# Altium footprint library WS-DISV.PcbLib: 32 footprints (part 1 of 2)
Each footprint in its own frame and in the unit in brackets; x right, y up, seen from the top. Pads: shape width x height; smd on the part's side, far side on the other; paste and mask are expansions set on the pad; w line width, h text height; cw(c..) or ccw(c..) is an arc to the next point about the centre after c.
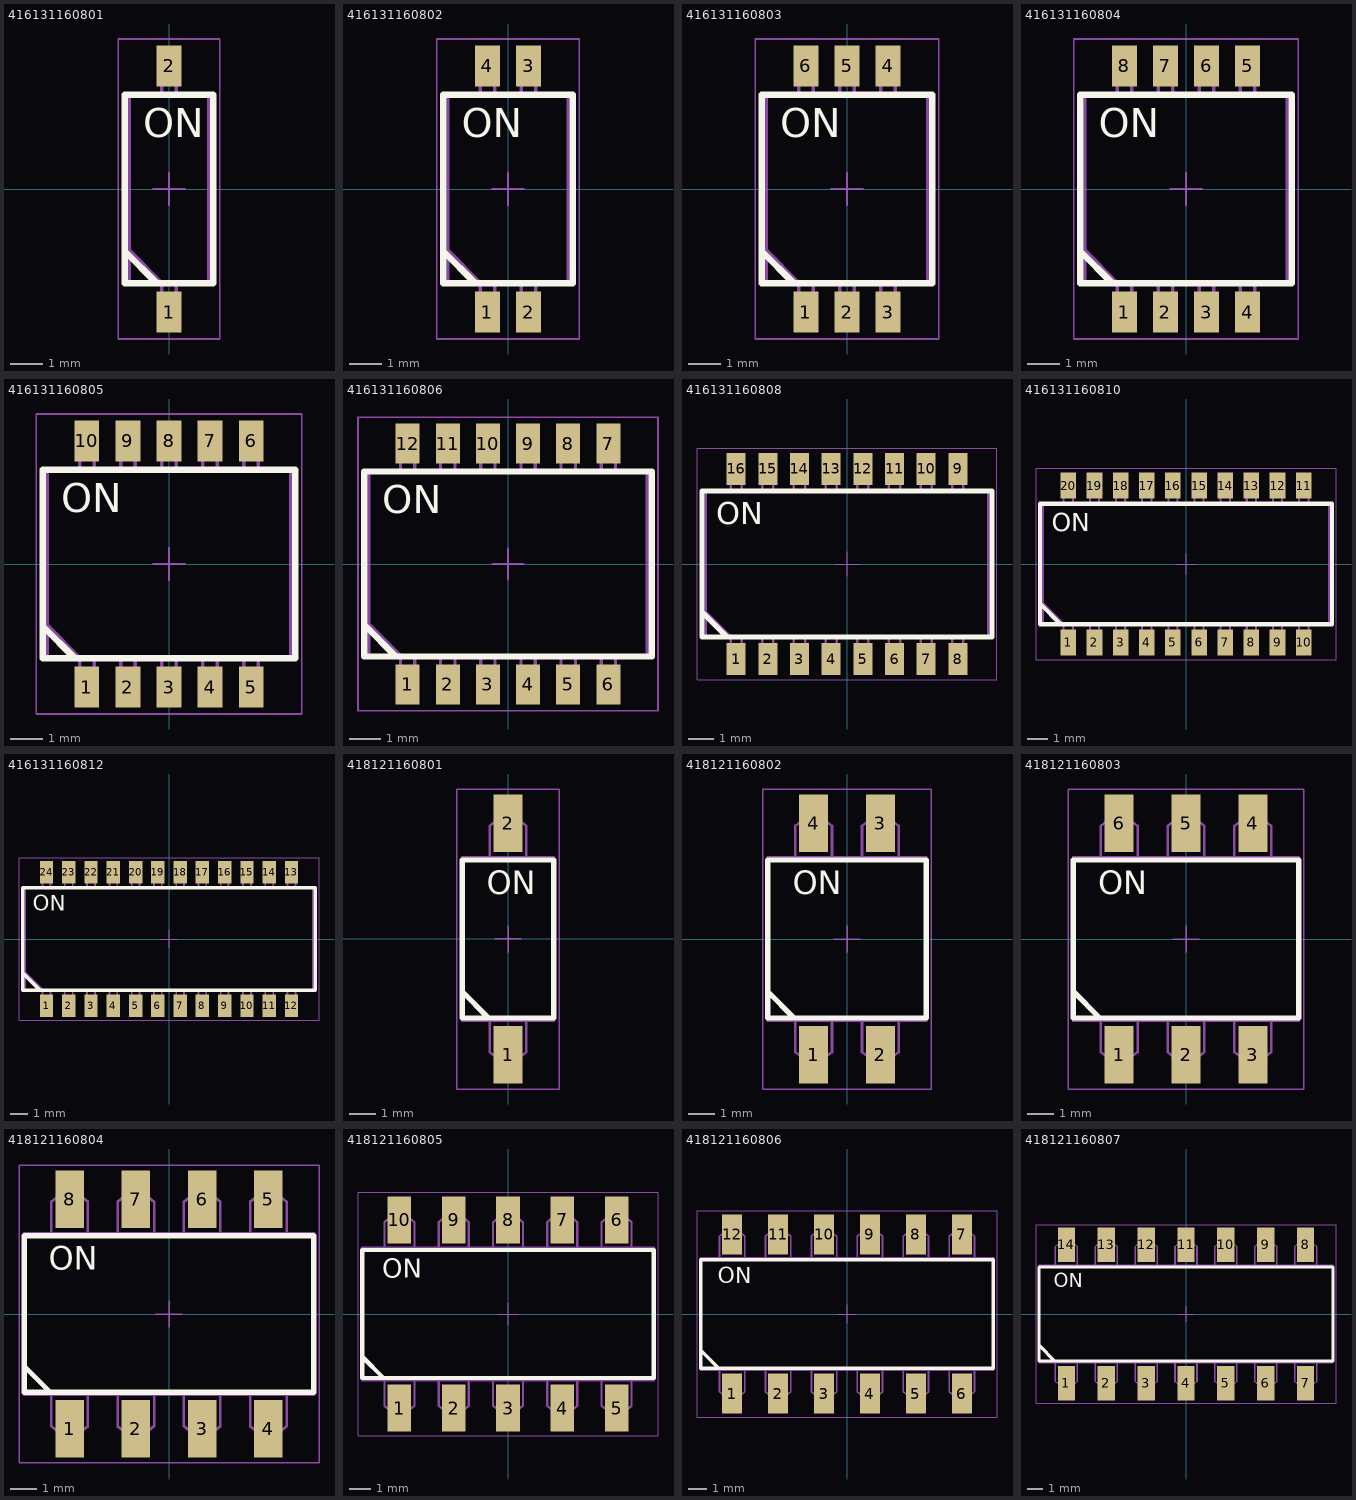
[diagram p0: the footprints below, top view; thin cyan lines are the x and y axes]

## 416131160801 [mm] "SMD Dip Switch, Small Compact, Raised Actuator, 1pin"
height 2.65
pads (2):
  rect 0.76x1.27 smd: 1(0,-3.81) 2(0,3.81)
Top Overlay:
  lines w0.2: -1.37,-1.925 -0.37,-2.925 ; -1.37,-2.925 -1.37,2.925 1.37,2.925 1.37,-2.925 -1.37,-2.925
  text "ON" at -0.8,1.6 h0.89
Top Component Outline:
  lines w0.1: -1.22,-1.9 -0.22,-2.9 ; -0.225,-2.9 -0.225,-4.32 0.225,-4.32 0.225,-2.9 ; -0.225,2.9 -0.225,4.32 0.225,4.32 0.225,2.9 ; -1.22,-2.9 1.22,-2.9 1.22,2.9 -1.22,2.9 -1.22,-2.9
  text "ON" at -0.8,1.6 h0.89
Top Courtyard:
  lines w0.05: -1.57,-4.645 -1.57,4.645 1.57,4.645 1.57,-4.645 -1.57,-4.645
Top Component Center:
  lines w0.05: -0.5,0 0.5,0 ; 0,-0.5 0,0.5
Top Designator (Mech19):
  text ".Designator" at -4.998,-0.333 h1
3D body "416131160801.stp": height 2.65, standoff 0, extent -1.22,-4.32 1.22,4.32

## 416131160802 [mm] "SMD Dip Switch, Small Compact, Raised Actuator, 2pin"
height 2.65
pads (4):
  rect 0.76x1.27 smd: 1(-0.635,-3.81) 2(0.635,-3.81) 3(0.635,3.81) 4(-0.635,3.81)
Top Overlay:
  lines w0.2: -2.005,-1.925 -1.005,-2.925 ; -2.005,-2.925 -2.005,2.925 2.005,2.925 2.005,-2.925 -2.005,-2.925
  text "ON" at -1.435,1.6 h0.89
Top Component Outline:
  lines w0.1: -1.855,-1.9 -0.855,-2.9 ; -0.86,-2.9 -0.86,-4.32 -0.41,-4.32 -0.41,-2.9 ; -0.86,2.9 -0.86,4.32 -0.41,4.32 -0.41,2.9 ; 0.41,-2.9 0.41,-4.32 0.86,-4.32 0.86,-2.9 ; 0.41,2.9 0.41,4.32 0.86,4.32 0.86,2.9 ; -1.855,-2.9 1.855,-2.9 1.855,2.9 -1.855,2.9 -1.855,-2.9
  text "ON" at -1.435,1.6 h0.89
Top Courtyard:
  lines w0.05: -2.205,-4.645 -2.205,4.645 2.205,4.645 2.205,-4.645 -2.205,-4.645
Top Component Center:
  lines w0.05: -0.5,0 0.5,0 ; 0,-0.5 0,0.5
Top Designator (Mech19):
  text ".Designator" at -7.498,-0.5 h1.5
3D body "416131160802.stp": height 2.7, standoff 0, extent -1.855,-4.22 1.855,4.22

## 416131160803 [mm] "SMD Dip Switch, Small Compact, Raised Actuator, 3pin"
height 2.65
pads (6):
  rect 0.76x1.27 smd: 1(-1.27,-3.81) 2(0,-3.81) 3(1.27,-3.81) 4(1.27,3.81) 5(0,3.81) 6(-1.27,3.81)
Top Overlay:
  lines w0.2: -2.64,-1.925 -1.64,-2.925 ; -2.64,-2.925 -2.64,2.925 2.64,2.925 2.64,-2.925 -2.64,-2.925
  text "ON" at -2.07,1.6 h0.89
Top Component Outline:
  lines w0.1: -2.49,-1.9 -1.49,-2.9 ; -1.495,-2.9 -1.495,-4.32 -1.045,-4.32 -1.045,-2.9 ; -1.495,2.9 -1.495,4.32 -1.045,4.32 -1.045,2.9 ; -0.225,-2.9 -0.225,-4.32 0.225,-4.32 0.225,-2.9 ; -0.225,2.9 -0.225,4.32 0.225,4.32 0.225,2.9 ; 1.045,-2.9 1.045,-4.32 1.495,-4.32 1.495,-2.9 ; 1.045,2.9 1.045,4.32 1.495,4.32 1.495,2.9 ; -2.49,-2.9 2.49,-2.9 2.49,2.9 -2.49,2.9 -2.49,-2.9
  text "ON" at -2.07,1.6 h0.89
Top Courtyard:
  lines w0.05: -2.84,-4.645 -2.84,4.645 2.84,4.645 2.84,-4.645 -2.84,-4.645
Top Component Center:
  lines w0.05: -0.5,0 0.5,0 ; 0,-0.5 0,0.5
Top Designator (Mech19):
  text ".Designator" at -7.498,-0.5 h1.5
3D body "416131160803.stp": height 2.65, standoff 0, extent -2.49,-4.22 2.49,4.22

## 416131160804 [mm] "SMD Dip Switch, Small Compact, Raised Actuator, 4pin"
height 2.65
pads (8):
  rect 0.76x1.27 smd: 1(-1.905,-3.81) 2(-0.635,-3.81) 3(0.635,-3.81) 4(1.905,-3.81) 5(1.905,3.81) 6(0.635,3.81) 7(-0.635,3.81) 8(-1.905,3.81)
Top Overlay:
  lines w0.2: -3.275,-1.925 -2.275,-2.925 ; -3.275,-2.925 -3.275,2.925 3.275,2.925 3.275,-2.925 -3.275,-2.925
  text "ON" at -2.705,1.6 h0.89
Top Component Outline:
  lines w0.1: -3.125,-1.9 -2.125,-2.9 ; -2.13,-2.9 -2.13,-4.32 -1.68,-4.32 -1.68,-2.9 ; -2.13,2.9 -2.13,4.32 -1.68,4.32 -1.68,2.9 ; -0.86,-2.9 -0.86,-4.32 -0.41,-4.32 -0.41,-2.9 ; -0.86,2.9 -0.86,4.32 -0.41,4.32 -0.41,2.9 ; 0.41,-2.9 0.41,-4.32 0.86,-4.32 0.86,-2.9 ; 0.41,2.9 0.41,4.32 0.86,4.32 0.86,2.9 ; 1.68,-2.9 1.68,-4.32 2.13,-4.32 2.13,-2.9 ; 1.68,2.9 1.68,4.32 2.13,4.32 2.13,2.9 ; -3.125,-2.9 3.125,-2.9 3.125,2.9 -3.125,2.9 -3.125,-2.9
  text "ON" at -2.705,1.6 h0.89
Top Courtyard:
  lines w0.05: -3.475,-4.645 -3.475,4.645 3.475,4.645 3.475,-4.645 -3.475,-4.645
Top Component Center:
  lines w0.05: -0.5,0 0.5,0 ; 0,-0.5 0,0.5
Top Designator (Mech19):
  text ".Designator" at -7.498,-0.5 h1.5
3D body "416131160804.stp": height 2.7, standoff 0, extent -3.125,-4.22 3.125,4.22

## 416131160805 [mm] "SMD Dip Switch, Small Compact, Raised Actuator, 5pin"
height 2.65
pads (10):
  rect 0.76x1.27 smd: 1(-2.54,-3.81) 2(-1.27,-3.81) 3(0,-3.81) 4(1.27,-3.81) 5(2.54,-3.81) 6(2.54,3.81) 7(1.27,3.81) 8(0,3.81) 9(-1.27,3.81) 10(-2.54,3.81)
Top Overlay:
  lines w0.2: -3.91,-1.925 -2.91,-2.925 ; -3.91,-2.925 -3.91,2.925 3.91,2.925 3.91,-2.925 -3.91,-2.925
  text "ON" at -3.34,1.6 h0.89
Top Component Outline:
  lines w0.1: -3.76,-1.9 -2.76,-2.9 ; -2.765,-2.9 -2.765,-4.32 -2.315,-4.32 -2.315,-2.9 ; -2.765,2.9 -2.765,4.32 -2.315,4.32 -2.315,2.9 ; -1.495,-2.9 -1.495,-4.32 -1.045,-4.32 -1.045,-2.9 ; -1.495,2.9 -1.495,4.32 -1.045,4.32 -1.045,2.9 ; -0.225,-2.9 -0.225,-4.32 0.225,-4.32 0.225,-2.9 ; -0.225,2.9 -0.225,4.32 0.225,4.32 0.225,2.9 ; 1.045,-2.9 1.045,-4.32 1.495,-4.32 1.495,-2.9 ; 1.045,2.9 1.045,4.32 1.495,4.32 1.495,2.9 ; 2.315,-2.9 2.315,-4.32 2.765,-4.32 2.765,-2.9 ; 2.315,2.9 2.315,4.32 2.765,4.32 2.765,2.9 ; -3.76,-2.9 3.76,-2.9 3.76,2.9 -3.76,2.9 -3.76,-2.9
  text "ON" at -3.34,1.6 h0.89
Top Courtyard:
  lines w0.05: -4.11,-4.645 -4.11,4.645 4.11,4.645 4.11,-4.645 -4.11,-4.645
Top Component Center:
  lines w0.05: -0.5,0 0.5,0 ; 0,-0.5 0,0.5
Top Designator (Mech19):
  text ".Designator" at -7.498,-0.5 h1.5
3D body "416131160805.stp": height 2.65, standoff 0, extent -3.76,-4.22 3.76,4.22

## 416131160806 [mm] "SMD Dip Switch, Small Compact, Raised Actuator, 6pin"
height 2.65
pads (12):
  rect 0.76x1.27 smd: 1(-3.175,-3.81) 2(-1.905,-3.81) 3(-0.635,-3.81) 4(0.635,-3.81) 5(1.905,-3.81) 6(3.175,-3.81) 7(3.175,3.81) 8(1.905,3.81) 9(0.635,3.81) 10(-0.635,3.81) 11(-1.905,3.81) 12(-3.175,3.81)
Top Overlay:
  lines w0.2: -4.545,-1.925 -3.545,-2.925 ; -4.545,-2.925 -4.545,2.925 4.545,2.925 4.545,-2.925 -4.545,-2.925
  text "ON" at -3.975,1.6 h0.89
Top Component Outline:
  lines w0.1: -4.395,-1.9 -3.395,-2.9 ; -3.4,-2.9 -3.4,-4.32 -2.95,-4.32 -2.95,-2.9 ; -3.4,2.9 -3.4,4.32 -2.95,4.32 -2.95,2.9 ; -2.13,-2.9 -2.13,-4.32 -1.68,-4.32 -1.68,-2.9 ; -2.13,2.9 -2.13,4.32 -1.68,4.32 -1.68,2.9 ; -0.86,-2.9 -0.86,-4.32 -0.41,-4.32 -0.41,-2.9 ; -0.86,2.9 -0.86,4.32 -0.41,4.32 -0.41,2.9 ; 0.41,-2.9 0.41,-4.32 0.86,-4.32 0.86,-2.9 ; 0.41,2.9 0.41,4.32 0.86,4.32 0.86,2.9 ; 1.68,-2.9 1.68,-4.32 2.13,-4.32 2.13,-2.9 ; 1.68,2.9 1.68,4.32 2.13,4.32 2.13,2.9 ; 2.95,-2.9 2.95,-4.32 3.4,-4.32 3.4,-2.9 ; 2.95,2.9 2.95,4.32 3.4,4.32 3.4,2.9 ; -4.395,-2.9 4.395,-2.9 4.395,2.9 -4.395,2.9 -4.395,-2.9
  text "ON" at -3.975,1.6 h0.89
Top Courtyard:
  lines w0.05: -4.745,-4.645 -4.745,4.645 4.745,4.645 4.745,-4.645 -4.745,-4.645
Top Component Center:
  lines w0.05: -0.5,0 0.5,0 ; 0,-0.5 0,0.5
Top Designator (Mech19):
  text ".Designator" at -7.498,-0.5 h1.5
3D body "416131160806.stp": height 2.7, standoff 0, extent -4.395,-4.22 4.395,4.22

## 416131160808 [mm] "SMD Dip Switch, Small Compact, Raised Actuator, 8pin"
height 2.65
pads (16):
  rect 0.76x1.27 smd: 1(-4.445,-3.81) 2(-3.175,-3.81) 3(-1.905,-3.81) 4(-0.635,-3.81) 5(0.635,-3.81) 6(1.905,-3.81) 7(3.175,-3.81) 8(4.445,-3.81) 9(4.445,3.81) 10(3.175,3.81) 11(1.905,3.81) 12(0.635,3.81) 13(-0.635,3.81) 14(-1.905,3.81) 15(-3.175,3.81) 16(-4.445,3.81)
Top Overlay:
  lines w0.2: -5.815,-1.925 -4.815,-2.925 ; -5.815,-2.925 5.815,-2.925 5.815,2.925 -5.815,2.925 -5.815,-2.925
  text "ON" at -5.245,1.6 h0.89
Top Component Outline:
  lines w0.1: -5.665,-1.9 -4.665,-2.9 ; -4.67,-2.9 -4.67,-4.32 -4.22,-4.32 -4.22,-2.9 ; -4.67,2.9 -4.67,4.32 -4.22,4.32 -4.22,2.9 ; -3.4,-2.9 -3.4,-4.32 -2.95,-4.32 -2.95,-2.9 ; -3.4,2.9 -3.4,4.32 -2.95,4.32 -2.95,2.9 ; -2.13,-2.9 -2.13,-4.32 -1.68,-4.32 -1.68,-2.9 ; -2.13,2.9 -2.13,4.32 -1.68,4.32 -1.68,2.9 ; -0.86,-2.9 -0.86,-4.32 -0.41,-4.32 -0.41,-2.9 ; -0.86,2.9 -0.86,4.32 -0.41,4.32 -0.41,2.9 ; 0.41,-2.9 0.41,-4.32 0.86,-4.32 0.86,-2.9 ; 0.41,2.9 0.41,4.32 0.86,4.32 0.86,2.9 ; 1.68,-2.9 1.68,-4.32 2.13,-4.32 2.13,-2.9 ; 1.68,2.9 1.68,4.32 2.13,4.32 2.13,2.9 ; 2.95,-2.9 2.95,-4.32 3.4,-4.32 3.4,-2.9 ; 2.95,2.9 2.95,4.32 3.4,4.32 3.4,2.9 ; 4.22,-2.9 4.22,-4.32 4.67,-4.32 4.67,-2.9 ; 4.22,2.9 4.22,4.32 4.67,4.32 4.67,2.9 ; -5.665,-2.9 -5.665,2.9 5.665,2.9 5.665,-2.9 -5.665,-2.9
  text "ON" at -5.245,1.6 h0.89
Top Courtyard:
  lines w0.05: -6.015,-4.645 6.015,-4.645 6.015,4.645 -6.015,4.645 -6.015,-4.645
Top Component Center:
  lines w0.05: -0.5,0 0.5,0 ; 0,-0.5 0,0.5
Top Designator (Mech19):
  text ".Designator" at -7.498,-0.5 h1.5
3D body "416131160808.stp": height 2.7, standoff 0, extent -5.665,-4.22 5.665,4.22

## 416131160810 [mm] "SMD Dip Switch, Small Compact, Raised Actuator, 10pin"
height 2.65
pads (20):
  rect 0.76x1.27 smd: 1(-5.715,-3.81) 2(-4.445,-3.81) 3(-3.175,-3.81) 4(-1.905,-3.81) 5(-0.635,-3.81) 6(0.635,-3.81) 7(1.905,-3.81) 8(3.175,-3.81) 9(4.445,-3.81) 10(5.715,-3.81) 11(5.715,3.81) 12(4.445,3.81) 13(3.175,3.81) 14(1.905,3.81) 15(0.635,3.81) 16(-0.635,3.81) 17(-1.905,3.81) 18(-3.175,3.81) 19(-4.445,3.81) 20(-5.715,3.81)
Top Overlay:
  lines w0.2: -7.085,-1.925 -6.085,-2.925 ; -7.085,-2.925 7.085,-2.925 7.085,2.925 -7.085,2.925 -7.085,-2.925
  text "ON" at -6.515,1.6 h0.89
Top Component Outline:
  lines w0.1: -6.935,-1.9 -5.935,-2.9 ; -5.94,-2.9 -5.94,-4.32 -5.49,-4.32 -5.49,-2.9 ; -5.94,2.9 -5.94,4.32 -5.49,4.32 -5.49,2.9 ; -4.67,-2.9 -4.67,-4.32 -4.22,-4.32 -4.22,-2.9 ; -4.67,2.9 -4.67,4.32 -4.22,4.32 -4.22,2.9 ; -3.4,-2.9 -3.4,-4.32 -2.95,-4.32 -2.95,-2.9 ; -3.4,2.9 -3.4,4.32 -2.95,4.32 -2.95,2.9 ; -2.13,-2.9 -2.13,-4.32 -1.68,-4.32 -1.68,-2.9 ; -2.13,2.9 -2.13,4.32 -1.68,4.32 -1.68,2.9 ; -0.86,-2.9 -0.86,-4.32 -0.41,-4.32 -0.41,-2.9 ; -0.86,2.9 -0.86,4.32 -0.41,4.32 -0.41,2.9 ; 0.41,-2.9 0.41,-4.32 0.86,-4.32 0.86,-2.9 ; 0.41,2.9 0.41,4.32 0.86,4.32 0.86,2.9 ; 1.68,-2.9 1.68,-4.32 2.13,-4.32 2.13,-2.9 ; 1.68,2.9 1.68,4.32 2.13,4.32 2.13,2.9 ; 2.95,-2.9 2.95,-4.32 3.4,-4.32 3.4,-2.9 ; 2.95,2.9 2.95,4.32 3.4,4.32 3.4,2.9 ; 4.22,-2.9 4.22,-4.32 4.67,-4.32 4.67,-2.9 ; 4.22,2.9 4.22,4.32 4.67,4.32 4.67,2.9 ; 5.49,-2.9 5.49,-4.32 5.94,-4.32 5.94,-2.9 ; 5.49,2.9 5.49,4.32 5.94,4.32 5.94,2.9 ; -6.935,-2.9 -6.935,2.9 6.935,2.9 6.935,-2.9 -6.935,-2.9
  text "ON" at -6.515,1.6 h0.89
Top Courtyard:
  lines w0.05: -7.285,-4.645 7.285,-4.645 7.285,4.645 -7.285,4.645 -7.285,-4.645
Top Component Center:
  lines w0.05: -0.5,0 0.5,0 ; 0,-0.5 0,0.5
Top Designator (Mech19):
  text ".Designator" at -7.498,-0.5 h1.5
3D body "416131160810.stp": height 2.7, standoff 0, extent -6.935,-4.22 6.935,4.22

## 416131160812 [mm] "SMD Dip Switch, Small Compact, Raised Actuator, 12pin"
height 2.65
pads (24):
  rect 0.76x1.27 smd: 1(-6.985,-3.81) 2(-5.715,-3.81) 3(-4.445,-3.81) 4(-3.175,-3.81) 5(-1.905,-3.81) 6(-0.635,-3.81) 7(0.635,-3.81) 8(1.905,-3.81) 9(3.175,-3.81) 10(4.445,-3.81) 11(5.715,-3.81) 12(6.985,-3.81) 13(6.985,3.81) 14(5.715,3.81) 15(4.445,3.81) 16(3.175,3.81) 17(1.905,3.81) 18(0.635,3.81) 19(-0.635,3.81) 20(-1.905,3.81) 21(-3.175,3.81) 22(-4.445,3.81) 23(-5.715,3.81) 24(-6.985,3.81)
Top Overlay:
  lines w0.2: -8.355,-1.925 -7.355,-2.925 ; -8.355,-2.925 8.355,-2.925 8.355,2.925 -8.355,2.925 -8.355,-2.925
  text "ON" at -7.785,1.6 h0.89
Top Component Outline:
  lines w0.1: -8.205,-1.9 -7.205,-2.9 ; -7.21,-2.9 -7.21,-4.32 -6.76,-4.32 -6.76,-2.9 ; -7.21,2.9 -7.21,4.32 -6.76,4.32 -6.76,2.9 ; -5.94,-2.9 -5.94,-4.32 -5.49,-4.32 -5.49,-2.9 ; -5.94,2.9 -5.94,4.32 -5.49,4.32 -5.49,2.9 ; -4.67,-2.9 -4.67,-4.32 -4.22,-4.32 -4.22,-2.9 ; -4.67,2.9 -4.67,4.32 -4.22,4.32 -4.22,2.9 ; -3.4,-2.9 -3.4,-4.32 -2.95,-4.32 -2.95,-2.9 ; -3.4,2.9 -3.4,4.32 -2.95,4.32 -2.95,2.9 ; -2.13,-2.9 -2.13,-4.32 -1.68,-4.32 -1.68,-2.9 ; -2.13,2.9 -2.13,4.32 -1.68,4.32 -1.68,2.9 ; -0.86,-2.9 -0.86,-4.32 -0.41,-4.32 -0.41,-2.9 ; -0.86,2.9 -0.86,4.32 -0.41,4.32 -0.41,2.9 ; 0.41,-2.9 0.41,-4.32 0.86,-4.32 0.86,-2.9 ; 0.41,2.9 0.41,4.32 0.86,4.32 0.86,2.9 ; 1.68,-2.9 1.68,-4.32 2.13,-4.32 2.13,-2.9 ; 1.68,2.9 1.68,4.32 2.13,4.32 2.13,2.9 ; 2.95,-2.9 2.95,-4.32 3.4,-4.32 3.4,-2.9 ; 2.95,2.9 2.95,4.32 3.4,4.32 3.4,2.9 ; 4.22,-2.9 4.22,-4.32 4.67,-4.32 4.67,-2.9 ; 4.22,2.9 4.22,4.32 4.67,4.32 4.67,2.9 ; 5.49,-2.9 5.49,-4.32 5.94,-4.32 5.94,-2.9 ; 5.49,2.9 5.49,4.32 5.94,4.32 5.94,2.9 ; 6.76,-2.9 6.76,-4.32 7.21,-4.32 7.21,-2.9 ; 6.76,2.9 6.76,4.32 7.21,4.32 7.21,2.9 ; -8.205,-2.9 -8.205,2.9 8.205,2.9 8.205,-2.9 -8.205,-2.9
  text "ON" at -7.785,1.6 h0.89
Top Courtyard:
  lines w0.05: -8.555,-4.645 8.555,-4.645 8.555,4.645 -8.555,4.645 -8.555,-4.645
Top Component Center:
  lines w0.05: -0.5,0 0.5,0 ; 0,-0.5 0,0.5
Top Designator (Mech19):
  text ".Designator" at -7.498,-0.5 h1.5
3D body "416131160812.stp": height 2.7, standoff 0, extent -8.205,-4.22 8.205,4.22

## 418121160801 [mm] "2.54 mm small compact SMD flat actuator with top tape, 01p"
height 3.2
pads (2):
  rect 1.1x2.2 smd: 1(0,-4.4) 2(0,4.4)
Top Overlay:
  lines w0.2: -1.74,-2 -0.74,-3 ; -1.74,-3 -1.74,3 1.74,3 1.74,-3 -1.74,-3
  text "ON" at -0.8,1.7 h0.89
Top Component Outline:
  lines w0.1: -1.74,-2.06 -0.7,-3.1 -0.7,-4.3 -0.25,-4.65 -0.25,-5.2 0.25,-5.2 0.25,-4.65 0.7,-4.3 0.7,-3.1 ; -0.7,3.1 -0.7,4.3 -0.25,4.65 -0.25,5.2 0.25,5.2 0.25,4.65 0.7,4.3 0.7,3.1 ; -1.74,-3.1 1.74,-3.1 1.74,3.1 -1.74,3.1 -1.74,-3.1
  text "ON" at -0.8,1.7 h0.89
Top Courtyard:
  lines w0.05: -1.94,-5.7 1.94,-5.7 1.94,5.7 -1.94,5.7 -1.94,-5.7
Top Component Center:
  lines w0.05: -0.5,0 0.5,0 ; 0,-0.5 0,0.5
Top Designator (Mech19):
  text ".Designator" at -7.498,-0.5 h1.5
3D body "418121160801 (rev1).stp": height 3.19, standoff 0, extent -1.74,-5.278 1.74,5.28

## 418121160802 [mm] "2.54 mm small compact SMD flat actuator with top tape, 02p"
height 3.2
pads (4):
  rect 1.1x2.2 smd: 1(-1.27,-4.4) 2(1.27,-4.4) 3(1.27,4.4) 4(-1.27,4.4)
Top Overlay:
  lines w0.2: -3.01,-2 -2.01,-3 ; -3.01,-3 -3.01,3 3.01,3 3.01,-3 -3.01,-3
  text "ON" at -2.07,1.7 h0.89
Top Component Outline:
  lines w0.1: -3.01,-2.06 -1.97,-3.1 -1.97,-4.3 -1.52,-4.65 -1.52,-5.2 -1.02,-5.2 -1.02,-4.65 -0.57,-4.3 -0.57,-3.1 ; -1.97,3.1 -1.97,4.3 -1.52,4.65 -1.52,5.2 -1.02,5.2 -1.02,4.65 -0.57,4.3 -0.57,3.1 ; 0.57,-3.1 0.57,-4.3 1.02,-4.65 1.02,-5.2 1.52,-5.2 1.52,-4.65 1.97,-4.3 1.97,-3.1 ; 0.57,3.1 0.57,4.3 1.02,4.65 1.02,5.2 1.52,5.2 1.52,4.65 1.97,4.3 1.97,3.1 ; -3.01,-3.1 3.01,-3.1 3.01,3.1 -3.01,3.1 -3.01,-3.1
  text "ON" at -2.07,1.7 h0.89
Top Courtyard:
  lines w0.05: -3.21,-5.7 3.21,-5.7 3.21,5.7 -3.21,5.7 -3.21,-5.7
Top Component Center:
  lines w0.05: -0.5,0 0.5,0 ; 0,-0.5 0,0.5
Top Designator (Mech19):
  text ".Designator" at -7.498,-0.5 h1.5
3D body "418121160802.stp": height 3.74, standoff 0, extent -3.01,-4.894 3.01,4.894

## 418121160803 [mm] "2.54 mm small compact SMD flat actuator with top tape, 03p"
height 3.2
pads (6):
  rect 1.1x2.2 smd: 1(-2.54,-4.4) 2(0,-4.4) 3(2.54,-4.4) 4(2.54,4.4) 5(0,4.4) 6(-2.54,4.4)
Top Overlay:
  lines w0.2: -4.28,-2 -3.28,-3 ; -4.28,-3 -4.28,3 4.28,3 4.28,-3 -4.28,-3
  text "ON" at -3.34,1.7 h0.89
Top Component Outline:
  lines w0.1: -4.28,-2.06 -3.24,-3.1 -3.24,-4.3 -2.79,-4.65 -2.79,-5.2 -2.29,-5.2 -2.29,-4.65 -1.84,-4.3 -1.84,-3.1 ; -3.24,3.1 -3.24,4.3 -2.79,4.65 -2.79,5.2 -2.29,5.2 -2.29,4.65 -1.84,4.3 -1.84,3.1 ; -0.7,-3.1 -0.7,-4.3 -0.25,-4.65 -0.25,-5.2 0.25,-5.2 0.25,-4.65 0.7,-4.3 0.7,-3.1 ; -0.7,3.1 -0.7,4.3 -0.25,4.65 -0.25,5.2 0.25,5.2 0.25,4.65 0.7,4.3 0.7,3.1 ; 1.84,-3.1 1.84,-4.3 2.29,-4.65 2.29,-5.2 2.79,-5.2 2.79,-4.65 3.24,-4.3 3.24,-3.1 ; 1.84,3.1 1.84,4.3 2.29,4.65 2.29,5.2 2.79,5.2 2.79,4.65 3.24,4.3 3.24,3.1 ; -4.28,-3.1 4.28,-3.1 4.28,3.1 -4.28,3.1 -4.28,-3.1
  text "ON" at -3.34,1.7 h0.89
Top Courtyard:
  lines w0.05: -4.48,-5.7 4.48,-5.7 4.48,5.7 -4.48,5.7 -4.48,-5.7
Top Component Center:
  lines w0.05: -0.5,0 0.5,0 ; 0,-0.5 0,0.5
Top Designator (Mech19):
  text ".Designator" at -7.498,-0.5 h1.5
3D body "418121160803.stp": height 3.74, standoff 0, extent -4.28,-4.894 4.28,4.894

## 418121160804 [mm] "2.54 mm small compact SMD flat actuator with top tape, 04p"
height 3.2
pads (8):
  rect 1.1x2.2 smd: 1(-3.81,-4.4) 2(-1.27,-4.4) 3(1.27,-4.4) 4(3.81,-4.4) 5(3.81,4.4) 6(1.27,4.4) 7(-1.27,4.4) 8(-3.81,4.4)
Top Overlay:
  lines w0.2: -5.55,-2 -4.55,-3 ; -5.55,-3 5.55,-3 5.55,3 -5.55,3 -5.55,-3
  text "ON" at -4.61,1.7 h0.89
Top Component Outline:
  lines w0.1: -5.55,-2.06 -4.51,-3.1 -4.51,-4.3 -4.06,-4.65 -4.06,-5.2 -3.56,-5.2 -3.56,-4.65 -3.11,-4.3 -3.11,-3.1 ; -4.51,3.1 -4.51,4.3 -4.06,4.65 -4.06,5.2 -3.56,5.2 -3.56,4.65 -3.11,4.3 -3.11,3.1 ; -1.97,-3.1 -1.97,-4.3 -1.52,-4.65 -1.52,-5.2 -1.02,-5.2 -1.02,-4.65 -0.57,-4.3 -0.57,-3.1 ; -1.97,3.1 -1.97,4.3 -1.52,4.65 -1.52,5.2 -1.02,5.2 -1.02,4.65 -0.57,4.3 -0.57,3.1 ; 0.57,-3.1 0.57,-4.3 1.02,-4.65 1.02,-5.2 1.52,-5.2 1.52,-4.65 1.97,-4.3 1.97,-3.1 ; 0.57,3.1 0.57,4.3 1.02,4.65 1.02,5.2 1.52,5.2 1.52,4.65 1.97,4.3 1.97,3.1 ; 3.11,-3.1 3.11,-4.3 3.56,-4.65 3.56,-5.2 4.06,-5.2 4.06,-4.65 4.51,-4.3 4.51,-3.1 ; 3.11,3.1 3.11,4.3 3.56,4.65 3.56,5.2 4.06,5.2 4.06,4.65 4.51,4.3 4.51,3.1 ; -5.55,-3.1 -5.55,3.1 5.55,3.1 5.55,-3.1 -5.55,-3.1
  text "ON" at -4.61,1.7 h0.89
Top Courtyard:
  lines w0.05: -5.75,-5.7 -5.75,5.7 5.75,5.7 5.75,-5.7 -5.75,-5.7
Top Component Center:
  lines w0.05: -0.5,0 0.5,0 ; 0,-0.5 0,0.5
Top Designator (Mech19):
  text ".Designator" at -7.498,-0.5 h1.5
3D body "418121160804.stp": height 3.74, standoff 0, extent -5.55,-4.894 5.55,4.894

## 418121160805 [mm] "2.54 mm small compact SMD flat actuator with top tape, 05p"
height 3.2
pads (10):
  rect 1.1x2.2 smd: 1(-5.08,-4.4) 2(-2.54,-4.4) 3(0,-4.4) 4(2.54,-4.4) 5(5.08,-4.4) 6(5.08,4.4) 7(2.54,4.4) 8(0,4.4) 9(-2.54,4.4) 10(-5.08,4.4)
Top Overlay:
  lines w0.2: -6.82,-2 -5.82,-3 ; -6.82,-3 -6.82,3 6.82,3 6.82,-3 -6.82,-3
  text "ON" at -5.88,1.7 h0.89
Top Component Outline:
  lines w0.1: -6.82,-2.06 -5.78,-3.1 -5.78,-4.3 -5.33,-4.65 -5.33,-5.2 -4.83,-5.2 -4.83,-4.65 -4.38,-4.3 -4.38,-3.1 ; -5.78,3.1 -5.78,4.3 -5.33,4.65 -5.33,5.2 -4.83,5.2 -4.83,4.65 -4.38,4.3 -4.38,3.1 ; -3.24,-3.1 -3.24,-4.3 -2.79,-4.65 -2.79,-5.2 -2.29,-5.2 -2.29,-4.65 -1.84,-4.3 -1.84,-3.1 ; -3.24,3.1 -3.24,4.3 -2.79,4.65 -2.79,5.2 -2.29,5.2 -2.29,4.65 -1.84,4.3 -1.84,3.1 ; -0.7,-3.1 -0.7,-4.3 -0.25,-4.65 -0.25,-5.2 0.25,-5.2 0.25,-4.65 0.7,-4.3 0.7,-3.1 ; -0.7,3.1 -0.7,4.3 -0.25,4.65 -0.25,5.2 0.25,5.2 0.25,4.65 0.7,4.3 0.7,3.1 ; 1.84,-3.1 1.84,-4.3 2.29,-4.65 2.29,-5.2 2.79,-5.2 2.79,-4.65 3.24,-4.3 3.24,-3.1 ; 1.84,3.1 1.84,4.3 2.29,4.65 2.29,5.2 2.79,5.2 2.79,4.65 3.24,4.3 3.24,3.1 ; 4.38,-3.1 4.38,-4.3 4.83,-4.65 4.83,-5.2 5.33,-5.2 5.33,-4.65 5.78,-4.3 5.78,-3.1 ; 4.38,3.1 4.38,4.3 4.83,4.65 4.83,5.2 5.33,5.2 5.33,4.65 5.78,4.3 5.78,3.1 ; -6.82,-3.1 6.82,-3.1 6.82,3.1 -6.82,3.1 -6.82,-3.1
  text "ON" at -5.88,1.7 h0.89
Top Courtyard:
  lines w0.05: -7.02,-5.7 7.02,-5.7 7.02,5.7 -7.02,5.7 -7.02,-5.7
Top Component Center:
  lines w0.05: -0.5,0 0.5,0 ; 0,-0.5 0,0.5
Top Designator (Mech19):
  text ".Designator" at -7.498,-0.5 h1.5
3D body "418121160805.stp": height 3.74, standoff 0, extent -6.82,-4.894 6.82,4.894

## 418121160806 [mm] "2.54 mm small compact SMD flat actuator with top tape, 06p"
height 3.2
pads (12):
  rect 1.1x2.2 smd: 1(-6.35,-4.4) 2(-3.81,-4.4) 3(-1.27,-4.4) 4(1.27,-4.4) 5(3.81,-4.4) 6(6.35,-4.4) 7(6.35,4.4) 8(3.81,4.4) 9(1.27,4.4) 10(-1.27,4.4) 11(-3.81,4.4) 12(-6.35,4.4)
Top Overlay:
  lines w0.2: -8.09,-2 -7.09,-3 ; -8.09,-3 8.09,-3 8.09,3 -8.09,3 -8.09,-3
  text "ON" at -7.15,1.7 h0.89
Top Component Outline:
  lines w0.1: -8.09,-2.06 -7.05,-3.1 -7.05,-4.3 -6.6,-4.65 -6.6,-5.2 -6.1,-5.2 -6.1,-4.65 -5.65,-4.3 -5.65,-3.1 ; -7.05,3.1 -7.05,4.3 -6.6,4.65 -6.6,5.2 -6.1,5.2 -6.1,4.65 -5.65,4.3 -5.65,3.1 ; -4.51,-3.1 -4.51,-4.3 -4.06,-4.65 -4.06,-5.2 -3.56,-5.2 -3.56,-4.65 -3.11,-4.3 -3.11,-3.1 ; -4.51,3.1 -4.51,4.3 -4.06,4.65 -4.06,5.2 -3.56,5.2 -3.56,4.65 -3.11,4.3 -3.11,3.1 ; -1.97,-3.1 -1.97,-4.3 -1.52,-4.65 -1.52,-5.2 -1.02,-5.2 -1.02,-4.65 -0.57,-4.3 -0.57,-3.1 ; -1.97,3.1 -1.97,4.3 -1.52,4.65 -1.52,5.2 -1.02,5.2 -1.02,4.65 -0.57,4.3 -0.57,3.1 ; 0.57,-3.1 0.57,-4.3 1.02,-4.65 1.02,-5.2 1.52,-5.2 1.52,-4.65 1.97,-4.3 1.97,-3.1 ; 0.57,3.1 0.57,4.3 1.02,4.65 1.02,5.2 1.52,5.2 1.52,4.65 1.97,4.3 1.97,3.1 ; 3.11,-3.1 3.11,-4.3 3.56,-4.65 3.56,-5.2 4.06,-5.2 4.06,-4.65 4.51,-4.3 4.51,-3.1 ; 3.11,3.1 3.11,4.3 3.56,4.65 3.56,5.2 4.06,5.2 4.06,4.65 4.51,4.3 4.51,3.1 ; 5.65,-3.1 5.65,-4.3 6.1,-4.65 6.1,-5.2 6.6,-5.2 6.6,-4.65 7.05,-4.3 7.05,-3.1 ; 5.65,3.1 5.65,4.3 6.1,4.65 6.1,5.2 6.6,5.2 6.6,4.65 7.05,4.3 7.05,3.1 ; -8.09,-3.1 -8.09,3.1 8.09,3.1 8.09,-3.1 -8.09,-3.1
  text "ON" at -7.15,1.7 h0.89
Top Courtyard:
  lines w0.05: -8.29,-5.7 -8.29,5.7 8.29,5.7 8.29,-5.7 -8.29,-5.7
Top Component Center:
  lines w0.05: -0.5,0 0.5,0 ; 0,-0.5 0,0.5
Top Designator (Mech19):
  text ".Designator" at -7.498,-0.5 h1.5
3D body "418121160806.stp": height 3.74, standoff 0, extent -8.09,-4.894 8.09,4.894

## 418121160807 [mm] "2.54 mm small compact SMD flat actuator with top tape, 07p"
height 3.2
pads (14):
  rect 1.1x2.2 smd: 1(-7.62,-4.4) 2(-5.08,-4.4) 3(-2.54,-4.4) 4(0,-4.4) 5(2.54,-4.4) 6(5.08,-4.4) 7(7.62,-4.4) 8(7.62,4.4) 9(5.08,4.4) 10(2.54,4.4) 11(0,4.4) 12(-2.54,4.4) 13(-5.08,4.4) 14(-7.62,4.4)
Top Overlay:
  lines w0.2: -9.36,-2 -8.36,-3 ; -9.36,-3 9.36,-3 9.36,3 -9.36,3 -9.36,-3
  text "ON" at -8.42,1.7 h0.89
Top Component Outline:
  lines w0.1: -9.36,-2.06 -8.32,-3.1 -8.32,-4.3 -7.87,-4.65 -7.87,-5.2 -7.37,-5.2 -7.37,-4.65 -6.92,-4.3 -6.92,-3.1 ; -8.32,3.1 -8.32,4.3 -7.87,4.65 -7.87,5.2 -7.37,5.2 -7.37,4.65 -6.92,4.3 -6.92,3.1 ; -5.78,-3.1 -5.78,-4.3 -5.33,-4.65 -5.33,-5.2 -4.83,-5.2 -4.83,-4.65 -4.38,-4.3 -4.38,-3.1 ; -5.78,3.1 -5.78,4.3 -5.33,4.65 -5.33,5.2 -4.83,5.2 -4.83,4.65 -4.38,4.3 -4.38,3.1 ; -3.24,-3.1 -3.24,-4.3 -2.79,-4.65 -2.79,-5.2 -2.29,-5.2 -2.29,-4.65 -1.84,-4.3 -1.84,-3.1 ; -3.24,3.1 -3.24,4.3 -2.79,4.65 -2.79,5.2 -2.29,5.2 -2.29,4.65 -1.84,4.3 -1.84,3.1 ; -0.7,-3.1 -0.7,-4.3 -0.25,-4.65 -0.25,-5.2 0.25,-5.2 0.25,-4.65 0.7,-4.3 0.7,-3.1 ; -0.7,3.1 -0.7,4.3 -0.25,4.65 -0.25,5.2 0.25,5.2 0.25,4.65 0.7,4.3 0.7,3.1 ; 1.84,-3.1 1.84,-4.3 2.29,-4.65 2.29,-5.2 2.79,-5.2 2.79,-4.65 3.24,-4.3 3.24,-3.1 ; 1.84,3.1 1.84,4.3 2.29,4.65 2.29,5.2 2.79,5.2 2.79,4.65 3.24,4.3 3.24,3.1 ; 4.38,-3.1 4.38,-4.3 4.83,-4.65 4.83,-5.2 5.33,-5.2 5.33,-4.65 5.78,-4.3 5.78,-3.1 ; 4.38,3.1 4.38,4.3 4.83,4.65 4.83,5.2 5.33,5.2 5.33,4.65 5.78,4.3 5.78,3.1 ; 6.92,-3.1 6.92,-4.3 7.37,-4.65 7.37,-5.2 7.87,-5.2 7.87,-4.65 8.32,-4.3 8.32,-3.1 ; 6.92,3.1 6.92,4.3 7.37,4.65 7.37,5.2 7.87,5.2 7.87,4.65 8.32,4.3 8.32,3.1 ; -9.36,-3.1 -9.36,3.1 9.36,3.1 9.36,-3.1 -9.36,-3.1
  text "ON" at -8.42,1.7 h0.89
Top Courtyard:
  lines w0.05: -9.56,-5.7 -9.56,5.7 9.56,5.7 9.56,-5.7 -9.56,-5.7
Top Component Center:
  lines w0.05: -0.5,0 0.5,0 ; 0,-0.5 0,0.5
Top Designator (Mech19):
  text ".Designator" at -7.498,-0.5 h1.5
3D body "418121160807.stp": height 3.74, standoff 0, extent -9.36,-4.894 9.36,4.894